# Altium footprint library TE_1825910-2.PcbLib: 1 footprints
Each footprint in its own frame and in the unit in brackets; x right, y up, seen from the top. Pads: shape width x height; smd on the part's side, far side on the other; paste and mask are expansions set on the pad; w line width, h text height; cw(c..) or ccw(c..) is an arc to the next point about the centre after c.
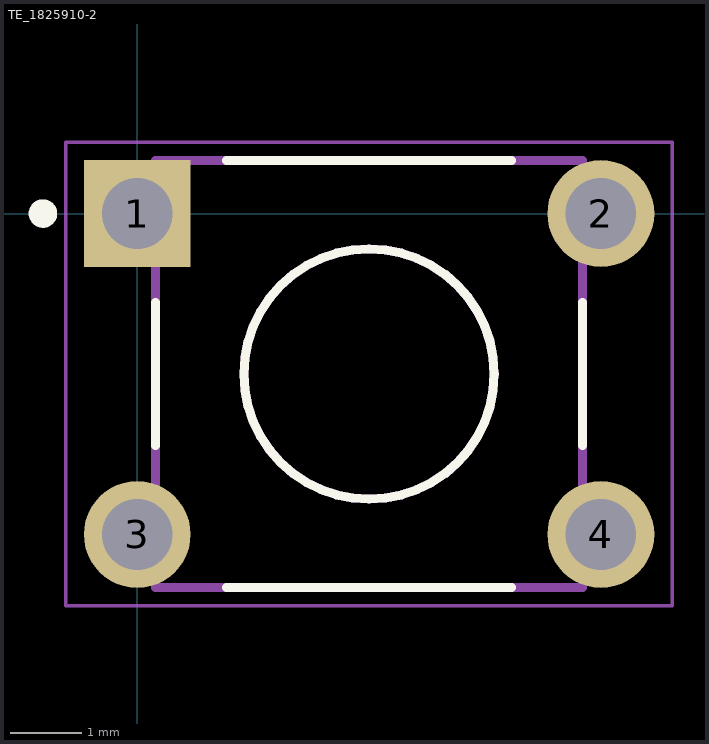
[diagram p0: the footprint, top view; thin cyan lines are the x and y axes]

## TE_1825910-2 [mm]
pads (4):
  rect 1.498x1.498 / inner round 1.498 / far side rect 1.498x1.498 hole 0.99: 1(0,0)
  round 1.498 hole 0.99: 2(6.5,0) 3(0,-4.5) 4(6.5,-4.5)
Top Overlay:
  circle w0.2: c-1.322,0 r0.1
  circle w0.127: c3.25,-2.25 r1.755
  lines w0.127: 0.255,-3.25 0.255,-1.25 ; 1.25,-5.245 5.25,-5.245 ; 1.25,0.745 5.25,0.745 ; 6.245,-3.25 6.245,-1.25
Mechanical 13:
  circle w0.127: c3.25,-2.25 r1.755
  lines w0.127: 0.255,-5.245 6.245,-5.245 6.245,0.745 0.255,0.745 0.255,-5.245
Mechanical 15:
  lines w0.05: -1,-5.5 7.5,-5.5 7.5,1 -1,1 -1,-5.5
3D body "tactileswitch-short.STEP": height 4.95, standoff -3.38, extent -0.544,-5.29 7.148,0.718